# EAGLE library part 2716-202/000-017 (library con-wago_2716)
Serie 2716, Stand: 01.01.2012. Die jeweils aktuellen Daten zu diesem Artikel finden Sie in unserem Produktkatalog, den Sie unter www.wago.com einsehen können. As of: 01/01/2012. Please find the newest data for this article in our product catalogue, which can be viewed under www.wago.com.
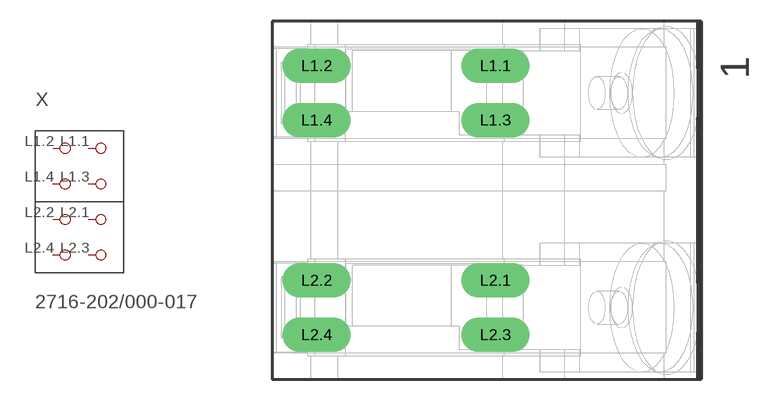
[diagram p63: symbol with the pads of P-2716-202; footprint P-2716-202]

Designator prefix X

## 2716-202/000-017  [P-2716-202]
L1.1  P1.1
L1.2  P1.2
L1.3  P1.3
L1.4  P1.4
L2.1  P2.1
L2.2  P2.2
L2.3  P2.3
L2.4  P2.4

## Footprint P-2716-202 (pad centres in mm)
drill 1.6 long: L1.1 0.6,9.4; L1.2 -11.9,9.4; L1.3 0.6,5.6; L1.4 -11.9,5.6; L2.1 0.6,-5.6; L2.2 -11.9,-5.6; L2.3 0.6,-9.4; L2.4 -11.9,-9.4